# EAGLE library part LTC6252 (library ccd)
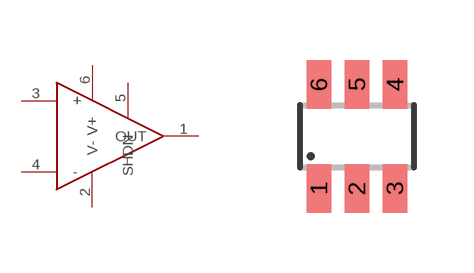
[diagram p3: symbol with the pads of TSOT23-6; footprint TSOT23-6]

Designator prefix -

## LTC6252  [TSOT23-6]
1  OUT
2  V-
3  +
4  -
5  SHDN
6  V+

## Footprint TSOT23-6 (pad centres in mm)
S6 Package 6-Lead Plastic TSOT-23 Source: http://cds.linear.com/docs/Datasheet/623012fb.pdf
smd 0.62 x 1.22: 1 -0.95,-1.3; 2 0,-1.3; 3 0.95,-1.3; 4 0.95,1.3; 5 0,1.3; 6 -0.95,1.3